# Altium integrated library 1986717-8.IntLib: 1 symbol
Pins are listed as number, name and electrical type; pins without a type are passive.

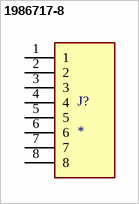
[diagram p0: symbol 1986717-8]

## 1986717-8
designator J?
8 Position Terminal Block Header, Male Pins, Unshrouded 0.138 (3.50mm) Vertical - Through Hole; Number_of_Positions: 8; MF: TE Connectivity; MP: 1986717-8; Centerline_Pitch: 3.5 mm[.138 in]; SnapEDA_Link: https://www.snapeda.com/parts/1986717-8/TE+Connectivity+AMP+Connectors/view-part/?ref=snap; Package: None; Value: *; Check_prices: https://www.snapeda.com/parts/1986717-8/TE+Connectivity+AMP+Connectors/view-part/?ref=eda
footprint TE_1986717-8
pins: 1, 2, 3, 4, 5, 6, 7, 8